# Altium integrated library SMD_button.IntLib: 2 symbols
Pins are listed as number, name and electrical type; pins without a type are passive.

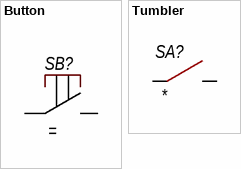
[diagram p0: symbols Button to Tumbler]

## Button
designator SB?
Model: *; Manufcacture: *; HelpURL: *; Case: *; Value: *
footprint Button tact KLS7-TS3603
footprint PBS26S
pins: 1, 2

## Tumbler
designator SA?
footprint ASW-15D-R(Green)
footprint ASW-15D-R(Red)
pins: 1, 2